# Altium footprint library BLE112.PcbLib: 1 footprints
Each footprint in its own frame and in the unit in brackets; x right, y up, seen from the top. Pads: shape width x height; smd on the part's side, far side on the other; paste and mask are expansions set on the pad; w line width, h text height; cw(c..) or ccw(c..) is an arc to the next point about the centre after c.
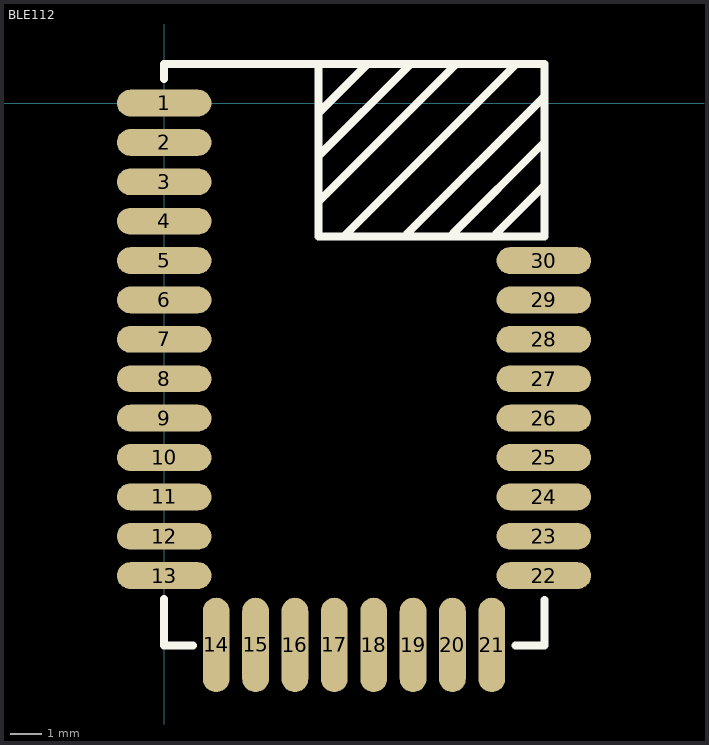
[diagram p0: the footprint, top view; thin cyan lines are the x and y axes]

## BLE112 [mm] "Bluegiga Bluetooth Module"
pads (30):
  oval 3x0.85 smd: 1(0,0) 2(0,-1.25) 3(0,-2.5) 4(0,-3.75) 5(0,-5) 6(0,-6.25) 7(0,-7.5) 8(0,-8.75) 9(0,-10) 10(0,-11.25) 11(0,-12.5) 12(0,-13.75) 13(0,-15) 22(12.05,-15) 23(12.05,-13.75) 24(12.05,-12.5) 25(12.05,-11.25) 26(12.05,-10) 27(12.05,-8.75) 28(12.05,-7.5) 29(12.05,-6.25) 30(12.05,-5)
  oval 0.85x3 smd: 14(1.65,-17.2) 15(2.9,-17.2) 16(4.15,-17.2) 17(5.4,-17.2) 18(6.65,-17.2) 19(7.9,-17.2) 20(9.15,-17.2) 21(10.4,-17.2)
Top Overlay:
  lines w0.254: 0,-15.748 0,-17.221 0.914,-17.221 ; 0,0.762 0,1.245 12.065,1.245 12.065,-4.242 4.902,-4.242 4.902,1.245 ; 4.902,-1.676 7.798,1.219 ; 4.928,-3.099 9.271,1.245 ; 4.928,-0.279 6.452,1.245 ; 5.69,-4.242 11.151,1.219 ; 7.696,-4.166 12.04,0.178 ; 9.169,-4.14 12.065,-1.245 ; 10.516,-4.166 12.04,-2.642 ; 11.151,-17.221 12.065,-17.221 12.065,-15.773
3D body: height 2.3, standoff -0.03, extent -0.013,-17.209 12.103,0.94